# Altium schematic symbol library PS2811-1-F3-A.SchLib: 1 symbol
Pins are listed as number, name and electrical type; pins without a type are passive.

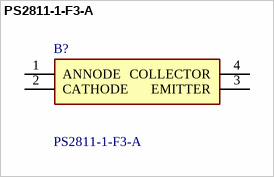
[diagram p0: symbol PS2811-1-F3-A]

## PS2811-1-F3-A
designator B?
Optoisolator Transistor Output 2500Vrms 1 Channel 4-SSOP; Manufacturer_Name: Renesas Electronics; Geometry.Height: 2.1mm; Mouser Part Number: 968-PS2811-1-F3-A; Mouser Price/Stock: https://www.mouser.co.uk/ProductDetail/Renesas-Electronics/PS2811-1-F3-A?qs=qSfuJ%252Bfl%2Fd77ds3zyWjujA%3D%3D; Manufacturer_Part_Number: PS2811-1-F3-A; Datasheet Link: https://www.digikey.ph/en/products/detail/cel/PS2811-1-F3-A/770592
footprint SOIC127P700X210-4N
pins: 1 ANNODE, 2 CATHODE, 3 EMITTER, 4 COLLECTOR